# EAGLE library part TXS0108E (library BQ25504)
TXS0108E 8-Bit Bi-directional Voltage Translator
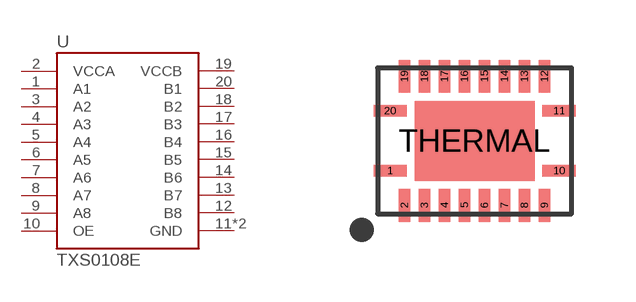
[diagram p48: symbol with the pads of R-PVQFN-N20; footprint R-PVQFN-N20]

Designator prefix U

## TXS0108EVQFN20  [R-PVQFN-N20]
1  A1
2  VCCA
3  A2
4  A3
5  A4
6  A5
7  A6
8  A7
9  A8
10  OE
11  GND
12  B8
13  B7
14  B6
15  B5
16  B4
17  B3
18  B2
19  VCCB
20  B1
THERMAL  GND

## Footprint R-PVQFN-N20 (pad centres in mm)
R-PVQFN-N20 Per TI's guidelines: http://www.ti.com/lit/an/scba017d/scba017d.pdf
smd 0.825 x 0.28: 1 -2.112,-0.75; 10 2.112,-0.75; 11 2.112,0.75; 20 -2.112,0.75
smd 0.28 x 0.825: 2 -1.75,-1.613; 3 -1.25,-1.613; 4 -0.75,-1.613; 5 -0.25,-1.613; 6 0.25,-1.613; 7 0.75,-1.613; 8 1.25,-1.613; 9 1.75,-1.613; 12 1.75,1.613; 13 1.25,1.613; 14 0.75,1.613; 15 0.25,1.613; 16 -0.25,1.613; 17 -0.75,1.613; 18 -1.25,1.613; 19 -1.75,1.613
smd 3 x 2: THERMAL 0,0